# Altium footprint library Connector_SMD.PcbLib: 33 footprints (part 1 of 3)
Each footprint in its own frame and in the unit in brackets; x right, y up, seen from the top. Pads: shape width x height; smd on the part's side, far side on the other; paste and mask are expansions set on the pad; w line width, h text height; cw(c..) or ccw(c..) is an arc to the next point about the centre after c.
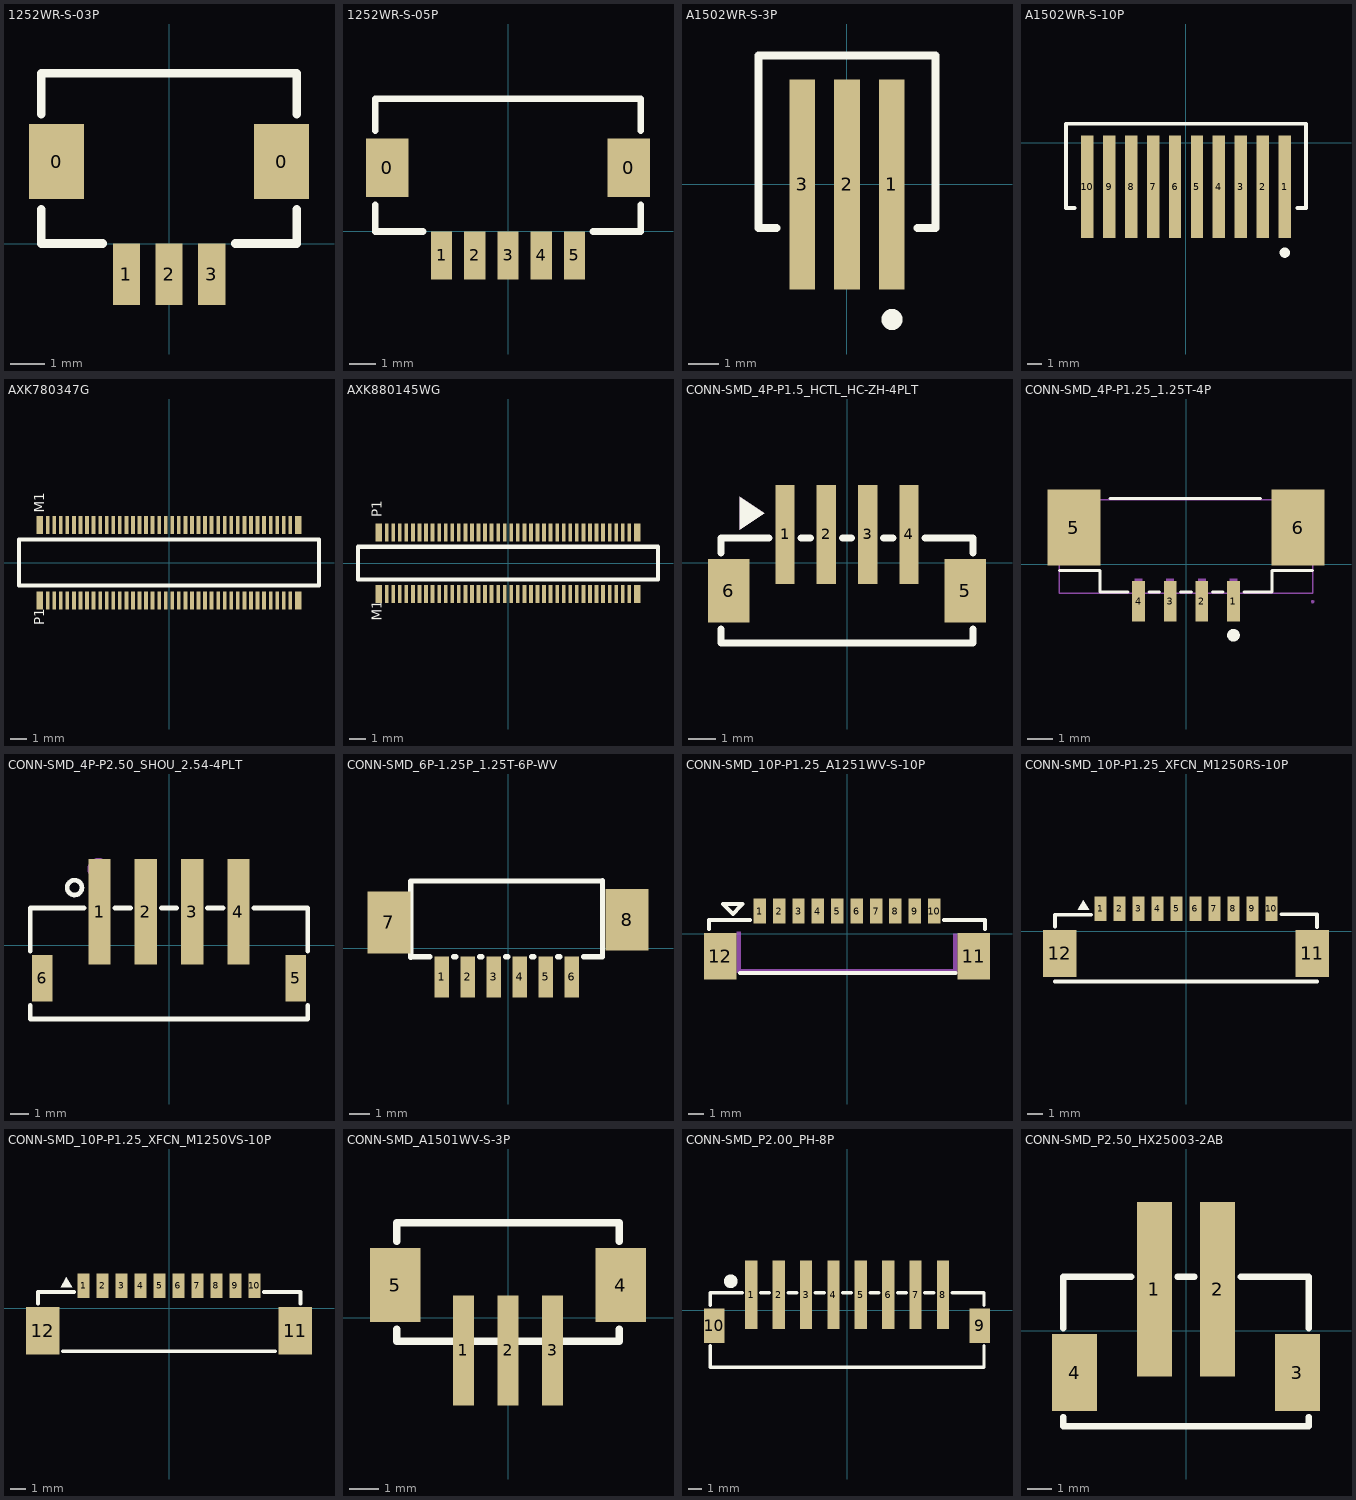
[diagram p0: the footprints below, top view; thin cyan lines are the x and y axes]

## 1252WR-S-03P [mm]
pads (5):
  rect 1.6x2.2 smd: 0(-3.3,2.4) 0(3.3,2.4)
  rect 0.8x1.8 smd: 1(-1.25,-0.9) 2(0,-0.9) 3(1.25,-0.9)
Top Overlay:
  lines w0.254: -3.75,1 -3.75,0 -1.95,0 ; -3.75,3.8 -3.75,5 3.75,5 3.75,3.8 ; 1.95,0 3.75,0 3.75,1

## 1252WR-S-05P [mm]
pads (7):
  rect 1.6x2.2 smd: 0(-4.55,2.4) 0(4.55,2.4)
  rect 0.8x1.8 smd: 1(-2.5,-0.9) 2(-1.25,-0.9) 3(0,-0.9) 4(1.25,-0.9) 5(2.5,-0.9)
Top Overlay:
  lines w0.254: -5,1 -5,0 -3.2,0 ; -5,3.8 -5,5 5,5 5,3.8 ; 3.2,0 5,0 5,1

## A1502WR-S-3P [mm]
pads (3):
  rect 0.85x7 smd paste-1 mask+0.102: 1(1.5,0)
  rect 0.85x7 smd paste-1: 2(0,0) 3(-1.5,0)
Top Overlay:
  circle w0.5: c1.5,-4.5 r0.1
  lines w0.254: -2.35,-1.45 -2.95,-1.45 -2.95,4.3 2.95,4.3 2.95,-1.45 2.35,-1.45
Top Paste:
  rectangle: -1.925,-3.5 -1.075,-0.95
  rectangle: -1.925,0.05 -1.075,3.5
  rectangle: -0.425,-3.5 0.425,-0.95
  rectangle: -0.425,0.05 0.425,3.5
  rectangle: 1.075,0.05 1.925,3.5
  rectangle: 1.075,-3.5 1.925,-0.95
Top Solder:
  rectangle: 0.975,-3.6 2.025,-0.85
  rectangle: 0.975,-0.05 2.025,3.6
  rectangle: -0.525,-0.05 0.525,3.6
  rectangle: -0.525,-3.6 0.525,-0.85
  rectangle: -2.025,-0.05 -0.975,3.6
  rectangle: -2.025,-3.6 -0.975,-0.85

## A1502WR-S-10P [mm]
pads (10):
  rect 0.85x7 smd paste-1 mask+0.102: 1(6.75,-3)
  rect 0.85x7 smd paste-1: 2(5.25,-3) 3(3.75,-3) 4(2.25,-3) 5(0.75,-3) 6(-0.75,-3) 7(-2.25,-3) 8(-3.75,-3) 9(-5.25,-3) 10(-6.75,-3)
Top Overlay:
  circle w0.5: c6.75,-7.5 r0.1
  lines w0.254: -7.6,-4.45 -8.2,-4.45 -8.2,1.3 8.2,1.3 8.2,-4.45 7.6,-4.45
Top Paste:
  rectangle: 6.325,-6.5 7.175,-3.95
  rectangle: 6.325,-2.95 7.175,0.5
  rectangle: 4.825,-2.95 5.675,0.5
  rectangle: 4.825,-6.5 5.675,-3.95
  rectangle: 3.325,-2.95 4.175,0.5
  rectangle: 3.325,-6.5 4.175,-3.95
  rectangle: 1.825,-2.95 2.675,0.5
  rectangle: 1.825,-6.5 2.675,-3.95
  rectangle: 0.325,-2.95 1.175,0.5
  rectangle: 0.325,-6.5 1.175,-3.95
  rectangle: -1.175,-2.95 -0.325,0.5
  rectangle: -1.175,-6.5 -0.325,-3.95
  rectangle: -2.675,-2.95 -1.825,0.5
  rectangle: -2.675,-6.5 -1.825,-3.95
  rectangle: -4.175,-2.95 -3.325,0.5
  rectangle: -4.175,-6.5 -3.325,-3.95
  rectangle: -5.675,-2.95 -4.825,0.5
  rectangle: -5.675,-6.5 -4.825,-3.95
  rectangle: -7.175,-2.95 -6.325,0.5
  rectangle: -7.175,-6.5 -6.325,-3.95
Top Solder:
  region: -6.225,-3.85 -7.275,-3.85 -7.275,-6.6 -6.225,-6.6
  region: -6.225,0.6 -7.275,0.6 -7.275,-3.05 -6.225,-3.05
  rectangle: -5.775,-6.6 -4.725,-3.85
  rectangle: -5.775,-3.05 -4.725,0.6
  rectangle: -4.275,-6.6 -3.225,-3.85
  rectangle: -4.275,-3.05 -3.225,0.6
  rectangle: -2.775,-6.6 -1.725,-3.85
  rectangle: -2.775,-3.05 -1.725,0.6
  rectangle: -1.275,-6.6 -0.225,-3.85
  rectangle: -1.275,-3.05 -0.225,0.6
  rectangle: 0.225,-6.6 1.275,-3.85
  rectangle: 0.225,-3.05 1.275,0.6
  rectangle: 1.725,-6.6 2.775,-3.85
  rectangle: 1.725,-3.05 2.775,0.6
  rectangle: 3.225,-6.6 4.275,-3.85
  rectangle: 3.225,-3.05 4.275,0.6
  rectangle: 4.725,-6.6 5.775,-3.85
  rectangle: 4.725,-3.05 5.775,0.6
  rectangle: 6.225,-3.05 7.275,0.6
  rectangle: 6.225,-6.6 7.275,-3.85
3D body "87437-1043.stp": height 4.52, standoff -1.47, extent -8.15,-4.45 8.15,1.3

## AXK780347G [mm]
height 2
pads (80):
  rect 0.4x1.1 smd: M1(-7.885,2.3) M40(7.885,2.3) P1(-7.885,-2.3) P40(7.885,-2.3)
  rect 0.23x1.1 smd: M2(-7.4,2.3) M3(-7,2.3) M4(-6.6,2.3) M5(-6.2,2.3) M6(-5.8,2.3) M7(-5.4,2.3) M8(-5,2.3) M9(-4.6,2.3) M10(-4.2,2.3) M11(-3.8,2.3) M12(-3.4,2.3) M13(-3,2.3) M14(-2.6,2.3) M15(-2.2,2.3) M16(-1.8,2.3) M17(-1.4,2.3) M18(-1,2.3) M19(-0.6,2.3) M20(-0.2,2.3) M21(0.2,2.3) M22(0.6,2.3) M23(1,2.3) M24(1.4,2.3) M25(1.8,2.3) M26(2.2,2.3) M27(2.6,2.3) M28(3,2.3) M29(3.4,2.3) M30(3.8,2.3) M31(4.2,2.3) M32(4.6,2.3) M33(5,2.3) M34(5.4,2.3) M35(5.8,2.3) M36(6.2,2.3) M37(6.6,2.3) M38(7,2.3) M39(7.4,2.3) P2(-7.4,-2.3) P3(-7,-2.3) P4(-6.6,-2.3) P5(-6.2,-2.3) P6(-5.8,-2.3) P7(-5.4,-2.3) P8(-5,-2.3) P9(-4.6,-2.3) P10(-4.2,-2.3) P11(-3.8,-2.3) P12(-3.4,-2.3) P13(-3,-2.3) P14(-2.6,-2.3) P15(-2.2,-2.3) P16(-1.8,-2.3) P17(-1.4,-2.3) P18(-1,-2.3) P19(-0.6,-2.3) P20(-0.2,-2.3) P21(0.2,-2.3) P22(0.6,-2.3) P23(1,-2.3) P24(1.4,-2.3) P25(1.8,-2.3) P26(2.2,-2.3) P27(2.6,-2.3) P28(3,-2.3) P29(3.4,-2.3) P30(3.8,-2.3) P31(4.2,-2.3) P32(4.6,-2.3) P33(5,-2.3) P34(5.4,-2.3) P35(5.8,-2.3) P36(6.2,-2.3) P37(6.6,-2.3) P38(7,-2.3) P39(7.4,-2.3)
Top Overlay:
  lines w0.254: -9.15,-1.4 -9.15,1.4 9.15,1.4 9.15,-1.4 -9.15,-1.4
  text "P1" at -7.6,-3.825 h0.6
  text "M1" at -7.6,3.05 h0.6

## AXK880145WG [mm]
pads (80):
  rect 0.4x1.1 smd: M1(-7.885,-1.88) M40(7.885,-1.88) P1(-7.885,1.88) P40(7.885,1.88)
  rect 0.23x1.1 smd: M2(-7.4,-1.88) M3(-7,-1.88) M4(-6.6,-1.88) M5(-6.2,-1.88) M6(-5.8,-1.88) M7(-5.4,-1.88) M8(-5,-1.88) M9(-4.6,-1.88) M10(-4.2,-1.88) M11(-3.8,-1.88) M12(-3.4,-1.88) M13(-3,-1.88) M14(-2.6,-1.88) M15(-2.2,-1.88) M16(-1.8,-1.88) M17(-1.4,-1.88) M18(-1,-1.88) M19(-0.6,-1.88) M20(-0.2,-1.88) M21(0.2,-1.88) M22(0.6,-1.88) M23(1,-1.88) M24(1.4,-1.88) M25(1.8,-1.88) M26(2.2,-1.88) M27(2.6,-1.88) M28(3,-1.88) M29(3.4,-1.88) M30(3.8,-1.88) M31(4.2,-1.88) M32(4.6,-1.88) M33(5,-1.88) M34(5.4,-1.88) M35(5.8,-1.88) M36(6.2,-1.88) M37(6.6,-1.88) M38(7,-1.88) M39(7.4,-1.88) P2(-7.4,1.88) P3(-7,1.88) P4(-6.6,1.88) P5(-6.2,1.88) P6(-5.8,1.88) P7(-5.4,1.88) P8(-5,1.88) P9(-4.6,1.88) P10(-4.2,1.88) P11(-3.8,1.88) P12(-3.4,1.88) P13(-3,1.88) P14(-2.6,1.88) P15(-2.2,1.88) P16(-1.8,1.88) P17(-1.4,1.88) P18(-1,1.88) P19(-0.6,1.88) P20(-0.2,1.88) P21(0.2,1.88) P22(0.6,1.88) P23(1,1.88) P24(1.4,1.88) P25(1.8,1.88) P26(2.2,1.88) P27(2.6,1.88) P28(3,1.88) P29(3.4,1.88) P30(3.8,1.88) P31(4.2,1.88) P32(4.6,1.88) P33(5,1.88) P34(5.4,1.88) P35(5.8,1.88) P36(6.2,1.88) P37(6.6,1.88) P38(7,1.88) P39(7.4,1.88)
Top Overlay:
  lines w0.254: -9.15,-1 -9.15,1 9.15,1 9.15,-1 -9.15,-1
  text "P1" at -7.7,2.8 h0.6
  text "M1" at -7.7,-3.5 h0.6

## CONN-SMD_4P-P1.5_HCTL_HC-ZH-4PLT [mm]
pads (6):
  rect 0.7x3.6 smd: 1(-2.25,1.025) 2(-0.75,1.025) 3(0.75,1.025) 4(2.25,1.025)
  rect 1.5x2.3 smd: 5(4.3,-1.025) 6(-4.3,-1.025)
Top Overlay:
  region: -3.9,2.4 -3.9,1.2 -3,1.8
  lines w0.254: -4.572,-2.406 -4.572,-2.921 4.572,-2.921 4.572,-2.406 ; -4.572,0.356 -4.572,0.889 -2.831,0.889 ; -1.669,0.889 -1.331,0.889 ; -0.169,0.889 0.169,0.889 ; 1.331,0.889 1.669,0.889 ; 2.831,0.889 4.572,0.889 4.572,0.356
Mechanical 15:
  region: -3.9,2.4 -3.9,1.2 -3,1.8
3D body "CN3.stp": height 5.1, standoff 0, extent -4.5,-2.881 4.5,2.319
3D body "CN3.stp": height 5.1, standoff 0, extent -4.5,-2.881 4.5,2.319

## CONN-SMD_4P-P1.25_1.25T-4P [mm]
pads (6):
  rect 0.5x1.6 smd mask+0.051: 1(1.875,-1.45) 2(0.625,-1.45) 3(-0.625,-1.45) 4(-1.875,-1.45)
  rect 2.1x3 smd mask+0.051: 5(-4.425,1.45) 6(4.425,1.45)
Top Overlay:
  lines w0.12: -5,-0.25 -3.4,-0.25 -3.4,-1.1 -2.289,-1.1 ; -3,2.6 2.95,2.6 ; -1.461,-1.1 -1.039,-1.1 ; -0.211,-1.1 0.211,-1.1 ; 1.039,-1.1 1.461,-1.1 ; 2.289,-1.1 3.4,-1.1 3.4,-0.25 5,-0.25
  lines w0.249: 2,-2.803 cw(c1.875,-2.801) 2,-2.8
Mechanical 6:
  circle w0.24: c1.9,-1.95 r0.12
Mechanical 15:
  region: 5.06,-1.47 5.06,-1.445 5.025,-1.41 4.975,-1.41 4.94,-1.445 4.94,-1.47 4.94,-1.495 4.975,-1.53 5.025,-1.53 5.06,-1.495 5.06,-1.47
  region: 2.025,-1.47 1.725,-1.47 1.725,-0.57 2.025,-0.57
  region: 0.775,-1.47 0.475,-1.47 0.475,-0.57 0.775,-0.57
  region: -0.475,-1.47 -0.775,-1.47 -0.775,-0.57 -0.475,-0.57
  region: -1.725,-1.47 -2.025,-1.47 -2.025,-0.57 -1.725,-0.57
  region: 5,0.55 3.5,0.55 3.5,2.55 5,2.55
  region: -3.5,0.55 -5,0.55 -5,2.55 -3.5,2.55
  lines w0.051: -5,-1.15 -5,2.55 5,2.55 5,-1.15 -5,-1.15
3D body "3D_PCB1_2022-04-16.stp": height 4.7, standoff 0, extent -5.075,-1.55 5.075,2.55

## CONN-SMD_4P-P2.50_SHOU_2.54-4PLT [mm]
pads (6):
  rect 1.2x5.7 smd: 1(-3.75,1.8) 2(-1.25,1.8) 3(1.25,1.8) 4(3.75,1.8)
  rect 1.1x2.5 smd: 5(6.85,-1.8) 6(-6.85,-1.8)
Top Overlay:
  circle w0.254: c-5.1,3.1 r0.4
  lines w0.254: -7.5,-3.258 -7.5,-4 7.5,-4 7.5,-3.258 ; -7.5,-0.342 -7.5,2 -4.581,2 ; -2.919,2 -2.081,2 ; -0.419,2 0.419,2 ; 2.081,2 2.919,2 ; 4.581,2 7.5,2 7.5,-0.342
Mechanical 15:
  circle w0.6: c-3.8,4.1 r0.3
3D body "U1.stp": height 7.95, standoff 0, extent -7.5,-3.825 7.5,4.475

## CONN-SMD_6P-1.25P_1.25T-6P-WV [mm]
pads (8):
  rect 0.7x2 smd: 1(-3.211,-1.387) 2(-1.951,-1.387) 3(-0.691,-1.387) 4(0.569,-1.387) 5(1.829,-1.387) 6(3.089,-1.387)
  rect 2.1x3 smd: 7(-5.779,1.26) 8(5.779,1.387)
Top Overlay:
  lines w0.254: -4.713,-0.435 -4.713,3.265 4.586,3.266 ; -4.571,-0.408 -3.795,-0.408 ; -2.632,-0.408 -2.535,-0.408 ; -1.372,-0.408 -1.275,-0.408 ; -0.112,-0.408 -0.015,-0.408 ; 1.148,-0.408 1.245,-0.408 ; 2.408,-0.408 2.505,-0.408 ; 3.668,-0.408 4.586,-0.408 4.586,3.292
3D body "CN1.stp": height 4.7, standoff 0, extent -6.324,-0.899 6.324,3.2

## CONN-SMD_10P-P1.25_A1251WV-S-10P [mm]
pads (12):
  rect 0.8x1.6 smd: 1(-5.625,1.449) 2(-4.375,1.449) 3(-3.125,1.449) 4(-1.875,1.449) 5(-0.625,1.449) 6(0.625,1.449) 7(1.875,1.449) 8(3.125,1.449) 9(4.375,1.449) 10(5.625,1.449)
  rect 2.1x3 smd: 11(8.174,-1.45) 12(-8.174,-1.45)
Top Overlay:
  lines w0.254: -8.89,0.282 -8.89,0.889 -6.256,0.889 ; -7.62,1.905 -6.858,1.905 -6.731,1.905 ; -6.893,-2.54 6.985,-2.54 ; 6.256,0.889 8.89,0.889 8.89,0.282 ; -6.731,1.905 -6.858,1.778 -7.366,1.27 -7.874,1.778 -8.001,1.905 -6.731,1.905
Mechanical 15:
  region: -7.112,0.127 -6.858,0.127 -6.858,-2.286 6.858,-2.286 6.858,0 7.112,0 7.112,-2.54 -7.112,-2.54
3D body "CN1.stp": height 4.75, standoff 0, extent -8.675,-2.226 8.675,1.475

## CONN-SMD_10P-P1.25_XFCN_M1250RS-10P [mm]
pads (12):
  rect 0.8x1.6 smd: 1(-5.625,1.475) 2(-4.375,1.475) 3(-3.125,1.475) 4(-1.875,1.475) 5(-0.625,1.475) 6(0.625,1.475) 7(1.875,1.475) 8(3.125,1.475) 9(4.375,1.475) 10(5.625,1.475)
  rect 2.2x3.1 smd: 11(8.325,-1.475) 12(-8.325,-1.475)
Top Overlay:
  region: -6.751,2.032 -7.132,1.397 -6.37,1.397
  lines w0.254: -8.625,-3.325 8.625,-3.325 ; -8.625,0.306 -8.625,1.075 -6.256,1.075 ; 6.27,1.1 8.63,1.1 8.63,0.263
3D body "CN1.stp": height 3.41, standoff 0, extent -8.675,-3.475 8.675,1.675

## CONN-SMD_10P-P1.25_XFCN_M1250VS-10P [mm]
pads (12):
  rect 0.8x1.6 smd: 1(-5.625,1.475) 2(-4.375,1.475) 3(-3.125,1.475) 4(-1.875,1.475) 5(-0.625,1.475) 6(0.625,1.475) 7(1.875,1.475) 8(3.125,1.475) 9(4.375,1.475) 10(5.625,1.475)
  rect 2.2x3.1 smd: 11(8.325,-1.475) 12(-8.325,-1.475)
Top Overlay:
  region: -6.751,2.032 -7.132,1.397 -6.37,1.397
  lines w0.254: -8.625,0.306 -8.625,1.075 -6.256,1.075 ; -6.994,-2.825 6.994,-2.825 ; 6.25,1.07 8.648,1.07 8.648,0.303
Mechanical 15:
  circle w0.2: c-5.729,1.987 r0.1
3D body "CN1.stp": height 4.75, standoff 0, extent -8.675,-2.226 8.675,1.475

## CONN-SMD_A1501WV-S-3P [mm]
pads (5):
  rect 0.7x3.7 smd: 1(-1.5,-1.1) 2(0,-1.1) 3(1.5,-1.1)
  rect 1.7x2.5 smd: 4(3.8,1.1) 5(-3.8,1.1)
Top Overlay:
  lines w0.254: -3.75,-0.381 -3.75,-0.8 3.75,-0.8 3.75,-0.381 ; -3.75,2.581 -3.75,3.2 3.75,3.2 3.75,2.581
3D body "CN1.stp": height 5.05, standoff 0, extent -3.749,-2.198 3.75,3.001

## CONN-SMD_P2.00_PH-8P [mm]
pads (10):
  rect 0.9x5 smd: 1(-6.99,1.128) 2(-4.99,1.128) 3(-2.99,1.128) 4(-0.99,1.128) 5(1.01,1.128) 6(3.01,1.128) 7(5.01,1.128) 8(7.01,1.128)
  rect 1.5x2.5 smd: 9(9.71,-1.127) 10(-9.71,-1.127)
Top Overlay:
  circle w0.5: c-8.5,2.123 r0.25
  lines w0.254: -9.99,-2.604 -9.99,-4.167 9.98,-4.167 ; -9.99,0.354 -9.99,1.29 -7.671,1.29 ; -6.309,1.29 -5.671,1.29 ; -4.309,1.29 -3.671,1.29 ; -2.309,1.29 -1.671,1.29 ; -0.309,1.29 0.329,1.29 ; 1.691,1.29 2.329,1.29 ; 3.691,1.29 4.329,1.29 ; 5.691,1.29 6.329,1.29 ; 7.691,1.29 10.01,1.29 10.01,0.354 ; 10.01,-4.167 10.01,-2.604
Mechanical 15:
  circle w0.4: c-6.98,2.283 r0.2
3D body "CN1.stp": height 6.6, standoff 0, extent -10,-4.09 10,2.81

## CONN-SMD_P2.50_HX25003-2AB [mm]
pads (4):
  rect 1.4x7 smd: 1(-1.27,1.675) 2(1.27,1.675)
  rect 1.8x3.1 smd: 3(4.47,-1.675) 4(-4.47,-1.675)
Top Overlay:
  lines w0.254: -4.92,-3.825 4.92,-3.825 4.92,-3.456 ; -4.92,-3.782 -4.92,-3.456 ; -4.92,0.106 -4.92,2.175 -2.201,2.175 ; -0.339,2.175 0.339,2.175 ; 2.201,2.175 4.92,2.175 4.92,0.106